# EAGLE library part PIC16F1829-I_SS (library Deegou_IC)
MCU 8-Bit PIC16 14KB Flash 2.5V SSOP20 Microchip PIC16F1829-I/SS, 8bit PIC Microcontroller, 32MHz, 8 kB Flash, 20-Pin SSOP Source: Datasheet <http://ww1.microchip.com/downloads/en/DeviceDoc/40001440E.pdf>
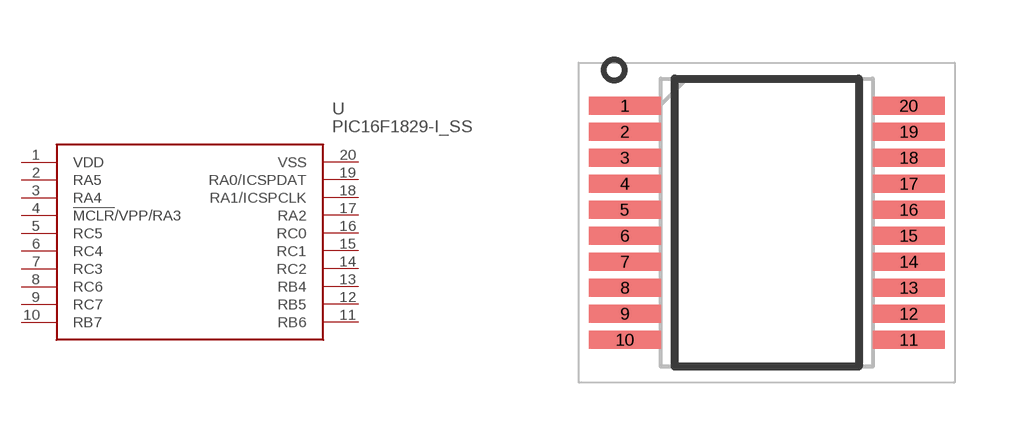
[diagram p139: symbol with the pads of SOP65P780X200-20N; footprint SOP65P780X200-20N]

Designator prefix U

## PIC16F1829-I_SS (ALLIED_NUMBER: 70451313; ALLIED_PRICE-STOCK: https://www.alliedelec.com/microchip-technology-inc-pic16f1829-i-ss/70451313/; DESCRIPTION: MCU 8-Bit PIC16 14KB Flash 2.5V SSOP20 Microchip PIC16F1829-I/SS, 8bit PIC Microcontroller, 32MHz, 8 kB Flash, 20-Pin SSOP; HEIGHT: 2mm; MANUFACTURER_NAME: Microchip; MANUFACTURER_PART_NUMBER: PIC16F1829-I/SS; MOUSER_PART_NUMBER: 579-PIC16F1829-I/SS; MOUSER_PRICE-STOCK: https://www.mouser.com/Search/Refine.aspx?Keyword=579-PIC16F1829-I%2FSS; RS_PART_NUMBER: 7985295; RS_PRICE-STOCK: https://uk.rs-online.com/web/p/products/7985295)  [SOP65P780X200-20N]
1  VDD
2  RA5
3  RA4
4  !MCLR!/VPP/RA3
5  RC5
6  RC4
7  RC3
8  RC6
9  RC7
10  RB7
11  RB6
12  RB5
13  RB4
14  RC2
15  RC1
16  RC0
17  RA2
18  RA1/ICSPCLK
19  RA0/ICSPDAT
20  VSS

## Footprint SOP65P780X200-20N (pad centres in mm)
(SS)20-lead(SSOP)
smd 1.8 x 0.45: 1 -3.55,2.925; 2 -3.55,2.275; 3 -3.55,1.625; 4 -3.55,0.975; 5 -3.55,0.325; 6 -3.55,-0.325; 7 -3.55,-0.975; 8 -3.55,-1.625; 9 -3.55,-2.275; 10 -3.55,-2.925; 11 3.55,-2.925; 12 3.55,-2.275; 13 3.55,-1.625; 14 3.55,-0.975; 15 3.55,-0.325; 16 3.55,0.325; 17 3.55,0.975; 18 3.55,1.625; 19 3.55,2.275; 20 3.55,2.925